# EAGLE library part PINHD-2X8 (library Connectors)
PIN HEADER
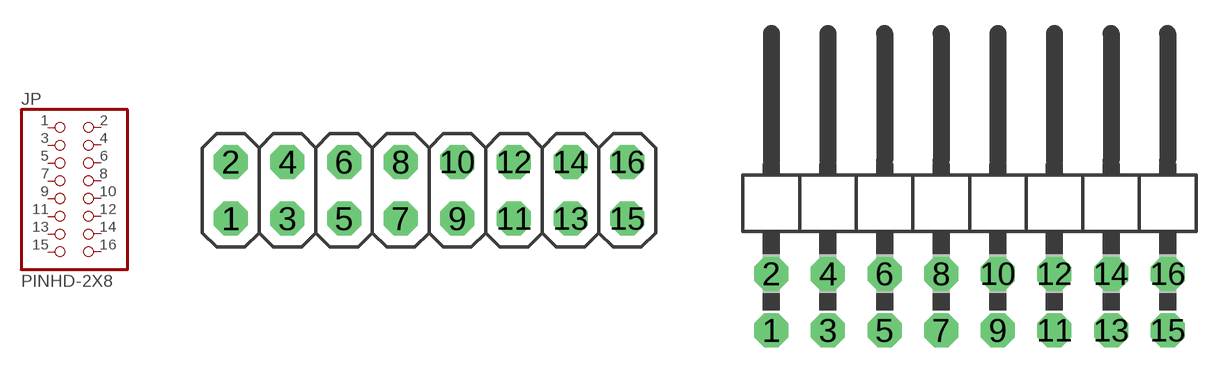
[diagram p33: symbol with the pads of 2X08; footprints 2X08, 2X08/90]

Designator prefix JP

## PINHD-2X8  [2X08]
1  1  pas
2  2  pas
3  3  pas
4  4  pas
5  5  pas
6  6  pas
7  7  pas
8  8  pas
9  9  pas
10  10  pas
11  11  pas
12  12  pas
13  13  pas
14  14  pas
15  15  pas
16  16  pas

## PINHD-2X8/90  [2X08/90]
Pads as for 2X08

## PINHD-2X8-50  [2X08-50]
Pads as for 2X08

## PINHD-2X8-50SM  [2X08-50SM]
Pads as for 2X08

## Footprint 2X08 (pad centres in mm)
PIN HEADER
drill 1.016 octagon: 1 -8.89,-1.27; 2 -8.89,1.27; 3 -6.35,-1.27; 4 -6.35,1.27; 5 -3.81,-1.27; 6 -3.81,1.27; 7 -1.27,-1.27; 8 -1.27,1.27; 9 1.27,-1.27; 10 1.27,1.27; 11 3.81,-1.27; 12 3.81,1.27; 13 6.35,-1.27; 14 6.35,1.27; 15 8.89,-1.27; 16 8.89,1.27

## Footprint 2X08/90 (pad centres in mm)
PIN HEADER
drill 1.016 octagon: 1 -8.89,-6.35; 2 -8.89,-3.81; 3 -6.35,-6.35; 4 -6.35,-3.81; 5 -3.81,-6.35; 6 -3.81,-3.81; 7 -1.27,-6.35; 8 -1.27,-3.81; 9 1.27,-6.35; 10 1.27,-3.81; 11 3.81,-6.35; 12 3.81,-3.81; 13 6.35,-6.35; 14 6.35,-3.81; 15 8.89,-6.35; 16 8.89,-3.81

## Footprint 2X08-50 (pad centres in mm)
drill 0.7 pad 1.016: 1 -0.635,4.445; 2 0.635,4.445; 3 -0.635,3.175; 4 0.635,3.175; 5 -0.635,1.905; 6 0.635,1.905; 7 -0.635,0.635; 8 0.635,0.635; 9 -0.635,-0.635; 10 0.635,-0.635; 11 -0.635,-1.905; 12 0.635,-1.905; 13 -0.635,-3.175; 14 0.635,-3.175; 15 -0.635,-4.445; 16 0.635,-4.445

## Footprint 2X08-50SM (pad centres in mm)
smd 2.4 x 0.76: 1 -1.905,4.445; 2 1.905,4.445; 3 -1.905,3.175; 4 1.905,3.175; 5 -1.905,1.905; 6 1.905,1.905; 7 -1.905,0.635; 8 1.905,0.635; 9 -1.905,-0.635; 10 1.905,-0.635; 11 -1.905,-1.905; 12 1.905,-1.905; 13 -1.905,-3.175; 14 1.905,-3.175; 15 -1.905,-4.445; 16 1.905,-4.445